# Altium footprint library ul_VS10MQ100NPBF.PcbLib: 3 footprints
Each footprint in its own frame and in the unit in brackets; x right, y up, seen from the top. Pads: shape width x height; smd on the part's side, far side on the other; paste and mask are expansions set on the pad; w line width, h text height; cw(c..) or ccw(c..) is an arc to the next point about the centre after c.
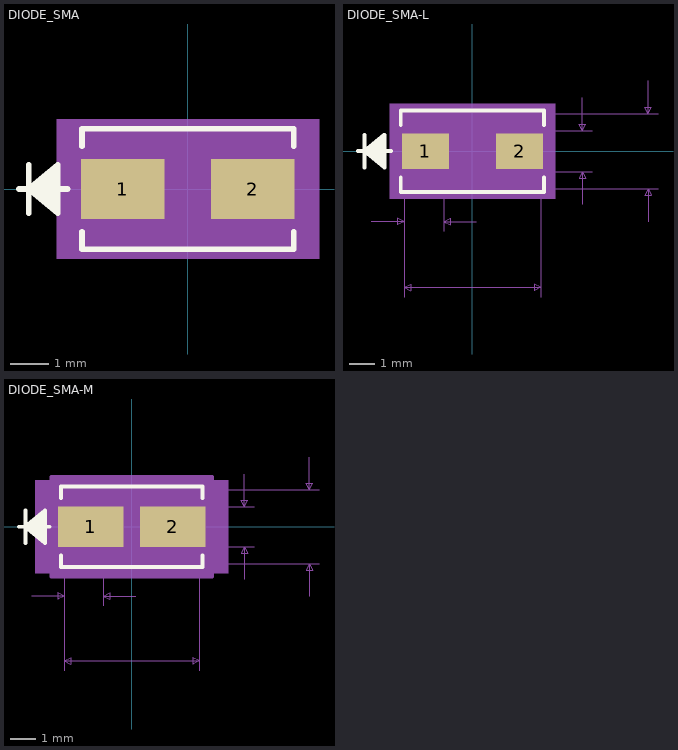
[diagram p0: the footprints below, top view; thin cyan lines are the x and y axes]

## DIODE_SMA [mil]
pads (2):
  rect 86x62 smd: 1(-67,0) 2(67,0)
Top Overlay:
  lines w6: -174,0 -124,0 ; -164,-25 -164,25 ; -134,-20 -164,0 ; -134,-15 -164,0 ; -134,-10 -164,0 ; -134,-5 -164,0 ; -134,5 -164,0 ; -134,10 -164,0 ; -134,15 -164,0 ; -134,20 -164,0 ; -109,-44.1 -109,-62 109,-62 109,-44.1 ; -109,44.1 -109,62 109,62 109,44.1 ; -164,0 -134,-25 -134,25 -164,0
Mechanical 5:
  region: 135,-72 -135,-72 -135,72 135,72
Mechanical 13:
  lines w1: -174,0 -124,0 ; -164,-25 -164,25 ; -134,-20 -164,0 ; -134,-15 -164,0 ; -134,-10 -164,0 ; -134,-5 -164,0 ; -134,5 -164,0 ; -134,10 -164,0 ; -134,15 -164,0 ; -134,20 -164,0 ; -164,0 -134,-25 -134,25 -164,0 ; -104,-57 -104,57 104,57 104,-57 -104,-57
Mechanical 15:
  region: -114,-41 -120,-41 -120,41 -114,41 -114,67 114,67 114,41 120,41 120,-41 114,-41 114,-67 -114,-67
  lines w6: -120,-41 -114,-41 -114,-67 114,-67 114,-41 120,-41 120,41 114,41 114,67 -114,67 -114,41 -120,41 -120,-41
3D body: height 10, standoff 0, extent 0,0 10,10

## DIODE_SMA-L [mil]
pads (2):
  rect 71x54 smd paste+0 mask+0: 1(-71.5,0) 2(71.5,0)
Top Overlay:
  lines w6: -174,0 -124,0 ; -164,-25 -164,25 ; -134,-20 -164,0 ; -134,-15 -164,0 ; -134,-10 -164,0 ; -134,-5 -164,0 ; -134,5 -164,0 ; -134,10 -164,0 ; -134,15 -164,0 ; -134,20 -164,0 ; -109,-39.95 -109,-62 109,-62 109,-39.95 ; -109,39.95 -109,62 109,62 109,39.95 ; -164,0 -134,25 -134,-25 -164,0
Mechanical 5:
  region: 126,-72 -126,-72 -126,72 126,72
Mechanical 7:
  lines w1: -154,-107 -104,-107 ; -104,-222 -104,0 -104,-122 ; -44,-122 -44,0 ; 6,-107 -44,-107 ; 104,-222 104,0 ; 117,-57 282,-57 ; 117,-31 182,-31 ; 117,31 182,31 ; 117,57 282,57 ; 167,-81 167,-31 ; 167,81 167,31 ; 267,-107 267,-57 ; 267,107 267,57 ; -104,-207 104,-207 ; -104,-207 -94,-202 -94,-212 -104,-207 ; -104,-107 -114,-102 -114,-112 -104,-107 ; -44,-107 -34,-102 -34,-112 -44,-107 ; 104,-207 94,-202 94,-212 104,-207 ; 167,-31 162,-41 172,-41 167,-31 ; 167,31 162,41 172,41 167,31 ; 267,-57 262,-67 272,-67 267,-57 ; 267,57 262,67 272,67 267,57
  text "Default Padstyle: RX71Y54D0T" at -350,-332 h50
  text "Alt 1 Padstyle: OX60Y90D30P" at -337.5,-407 h50
  text "Alt 2 Padstyle: OX90Y60D30P" at -337.5,-482 h50
  text "0.062in/1.575mm" at 187,-12.5 h25
  text "0.114in/2.896mm" at 287,-12.5 h25
  text "0.208in/5.283mm" at -93.75,-252 h25
  text "0.06in/1.524mm" at -161.5,-152 h25
Mechanical 13:
  lines w1: -174,0 -124,0 ; -164,-25 -164,25 ; -134,-20 -164,0 ; -134,-15 -164,0 ; -134,-10 -164,0 ; -134,-5 -164,0 ; -134,5 -164,0 ; -134,10 -164,0 ; -134,15 -164,0 ; -134,20 -164,0 ; -164,0 -134,25 -134,-25 -164,0 ; -104,-57 104,-57 104,57 -104,57 -104,-57
Mechanical 15:
  region: -108,-35 -111,-35 -111,35 -108,35 -108,61 108,61 108,35 111,35 111,-35 108,-35 108,-61 -108,-61
  lines w6: -111,-35 -111,35 -108,35 -108,61 108,61 108,35 111,35 111,-35 108,-35 108,-61 -108,-61 -108,-35 -111,-35
3D body: height 10, standoff 0, extent 0,0 10,10

## DIODE_SMA-M [mil]
pads (2):
  rect 101x62 smd paste+0 mask+0: 1(-63.5,0) 2(63.5,0)
Top Overlay:
  lines w6: -174,0 -127.1,0 ; -164,-25 -164,25 ; -134,-20 -164,0 ; -134,-15 -164,0 ; -134,-10 -164,0 ; -134,-5 -164,0 ; -134,5 -164,0 ; -134,10 -164,0 ; -134,15 -164,0 ; -134,20 -164,0 ; -109,-44.1 -109,-62 109,-62 109,-44.1 ; -109,44.1 -109,62 109,62 109,44.1 ; -164,0 -134,25 -134,-25 -164,0
Mechanical 5:
  region: 149,-72 -149,-72 -149,72 149,72
Mechanical 7:
  lines w1: -154,-107 -104,-107 ; -104,-222 -104,0 -104,-122 ; -44,-122 -44,0 ; 6,-107 -44,-107 ; 104,-222 104,0 ; 124,-57 289,-57 ; 124,-31 189,-31 ; 124,31 189,31 ; 124,57 289,57 ; 174,-81 174,-31 ; 174,81 174,31 ; 274,-107 274,-57 ; 274,107 274,57 ; -104,-207 104,-207 ; -104,-207 -94,-202 -94,-212 -104,-207 ; -104,-107 -114,-102 -114,-112 -104,-107 ; -44,-107 -34,-102 -34,-112 -44,-107 ; 104,-207 94,-202 94,-212 104,-207 ; 174,-31 169,-41 179,-41 174,-31 ; 174,31 169,41 179,41 174,31 ; 274,-57 269,-67 279,-67 274,-57 ; 274,57 269,67 279,67 274,57
  text "Default Padstyle: RX101Y62D0T" at -362.5,-332 h50
  text "Alt 1 Padstyle: OX60Y90D30P" at -337.5,-407 h50
  text "Alt 2 Padstyle: OX90Y60D30P" at -337.5,-482 h50
  text "0.062in/1.575mm" at 194,-12.5 h25
  text "0.114in/2.896mm" at 294,-12.5 h25
  text "0.208in/5.283mm" at -93.75,-252 h25
  text "0.06in/1.524mm" at -161.5,-152 h25
Mechanical 13:
  lines w1: -174,0 -124,0 ; -164,-25 -164,25 ; -134,-20 -164,0 ; -134,-15 -164,0 ; -134,-10 -164,0 ; -134,-5 -164,0 ; -134,5 -164,0 ; -134,10 -164,0 ; -134,15 -164,0 ; -134,20 -164,0 ; -164,0 -134,25 -134,-25 -164,0 ; -104,-57 104,-57 104,57 -104,57 -104,-57
Mechanical 15:
  region: -124,-51 -134,-51 -134,51 -124,51 -124,77 124,77 124,51 134,51 134,-51 124,-51 124,-77 -124,-77
  lines w6: -134,-51 -134,51 -124,51 -124,77 124,77 124,51 134,51 134,-51 124,-51 124,-77 -124,-77 -124,-51 -134,-51
3D body: height 10, standoff 0, extent 0,0 10,10